# Altium schematic symbol library LCD5110.SchLib: 1 symbol
Pins are listed as number, name and electrical type; pins without a type are passive.

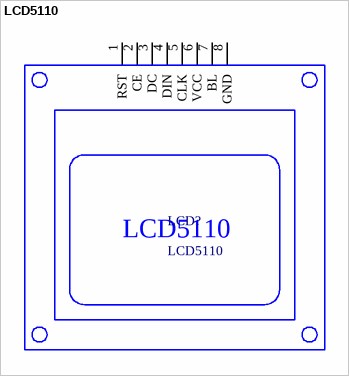
[diagram p0: symbol LCD5110]

## LCD5110
designator LCD?
IC Philips PCD8544. 3V~5V, 84×48 pixels
footprint LCD5110
pins: 1 RST, 2 CE, 3 DC, 4 DIN, 5 CLK, 6 VCC, 7 BL, 8 GND